# Altium schematic symbol library Swtich.SCHLIB: 2 symbols
Pins are listed as number, name and electrical type; pins without a type are passive.

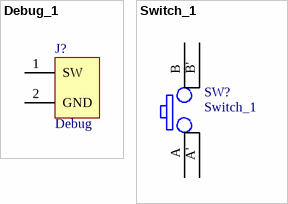
[diagram p0: symbols Debug_1 to Switch_1]

## Debug_1
designator J?, comment Debug
厂家：暂定，型号：暂定
footprint CON4*2.54
footprint CON3*2.54
footprint DEBUG
footprint Debug- 1.27
pins: 1 SW, 2 GND

## Switch_1
designator SW?
厂家：松下，型号：EVQPLMA15
footprint SW-K2-1157 (6.5*6.5*2.5*3(L*W*H*R))
footprint SW
footprint SW-EVQQ2 (Panasonic)
footprint EVQPLD
footprint GuoZhaiPian-5MM (厂家：厦门今明科技电子，型号：5015)
footprint EVQPLD
pins: A, A', B, B'